# Altium footprint library LIB_TEMP_S7CAS.PcbLib: 4 footprints
Each footprint in its own frame and in the unit in brackets; x right, y up, seen from the top. Pads: shape width x height; smd on the part's side, far side on the other; paste and mask are expansions set on the pad; w line width, h text height; cw(c..) or ccw(c..) is an arc to the next point about the centre after c.
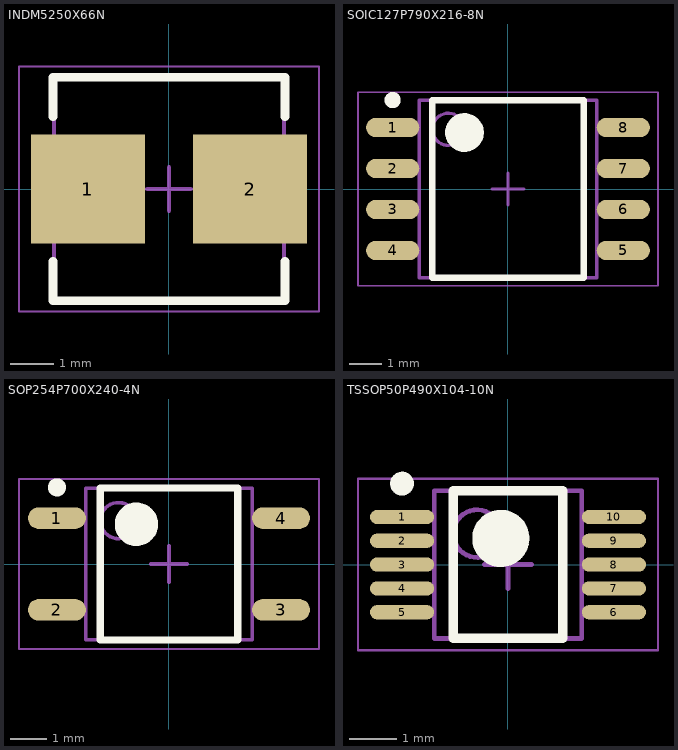
[diagram p0: the footprints below, top view; thin cyan lines are the x and y axes]

## INDM5250X66N [mm] "Molded Inductor, 2-Leads, Body 5.22x5.03mm, IPC Medium Density"
height 6.6
pads (2):
  rect 2.6x2.5 smd: 1(-1.85,0) 2(1.85,0)
Top Overlay:
  lines w0.2: -2.65,-1.65 -2.65,-2.55 2.65,-2.55 2.65,-1.65 ; -2.65,1.65 -2.65,2.55 2.65,2.55 2.65,1.65
Top 3D Model:
  lines w0.1: -2.625,-2.525 -2.625,2.525 2.625,2.525 2.625,-2.525 -2.625,-2.525
Top Courtyard:
  lines w0.05: -3.425,-2.8 -3.425,2.8 3.425,2.8 3.425,-2.8 -3.425,-2.8
  lines w0.1: -0.5,0 0.5,0 ; 0,-0.5 0,0.5
3D body: height 6.6, standoff 0, extent -2.625,-2.525 2.625,2.525

## SOIC127P790X216-8N [mm] "SOIC, 8-Leads, Body 5.29x5.29mm, Pitch 1.27mm, IPC Medium Density"
height 2.16
pads (8):
  oval 1.65x0.6 smd: 1(-3.575,1.905) 2(-3.575,0.635) 3(-3.575,-0.635) 4(-3.575,-1.905) 5(3.575,-1.905) 6(3.575,-0.635) 7(3.575,0.635) 8(3.575,1.905)
Top Overlay:
  circle w0.25: c-3.575,2.755 r0.125
  circle w0.6: c-1.35,1.75 r0.3
  lines w0.2: -2.35,-2.75 -2.35,2.75 2.35,2.75 2.35,-2.75 -2.35,-2.75
Top 3D Model:
  circle w0.1: c-1.85,1.85 r0.5
  lines w0.1: -2.75,-2.75 -2.75,2.75 2.75,2.75 2.75,-2.75 -2.75,-2.75
Top Courtyard:
  lines w0.05: -4.65,-3 -4.65,3 4.65,3 4.65,-3 -4.65,-3
  lines w0.1: -0.5,0 0.5,0 ; 0,-0.5 0,0.5
3D body: height 2.16, standoff 0.05, extent -2.75,-2.75 2.75,2.75

## SOP254P700X240-4N [mm] "SOP, 4-Leads, Body 3.85x4.40mm, Pitch 2.54mm, IPC Medium Density"
height 2.4
pads (4):
  oval 1.6x0.6 smd: 1(-3.1,1.27) 2(-3.1,-1.27) 3(3.1,-1.27) 4(3.1,1.27)
Top Overlay:
  circle w0.6: c-0.9,1.1 r0.3
  circle w0.25: c-3.1,2.12 r0.125
  lines w0.2: -1.9,-2.1 1.9,-2.1 1.9,2.1 -1.9,2.1 -1.9,-2.1
Top 3D Model:
  circle w0.1: c-1.4,1.2 r0.5
  lines w0.1: -2.3,-2.1 2.3,-2.1 2.3,2.1 -2.3,2.1 -2.3,-2.1
Top Courtyard:
  lines w0.05: -4.15,-2.35 4.15,-2.35 4.15,2.35 -4.15,2.35 -4.15,-2.35
  lines w0.1: -0.5,0 0.5,0 ; 0,-0.5 0,0.5
3D body: height 2.4, standoff 0.2, extent -2.3,-2.1 2.3,2.1

## TSSOP50P490X104-10N [mm] "TSSOP, 10-Leads, Body 3.00x3.00mm, Pitch 0.50mm, IPC Medium Density"
height 1.04
pads (10):
  oval 1.35x0.3 smd: 1(-2.225,1) 2(-2.225,0.5) 3(-2.225,0) 4(-2.225,-0.5) 5(-2.225,-1) 6(2.225,-1) 7(2.225,-0.5) 8(2.225,0) 9(2.225,0.5) 10(2.225,1)
Top Overlay:
  circle w0.25: c-2.225,1.7 r0.125
  circle w0.6: c-0.15,0.55 r0.3
  lines w0.2: -1.15,-1.55 -1.15,1.55 1.15,1.55 1.15,-1.55 -1.15,-1.55
Top 3D Model:
  circle w0.1: c-0.65,0.65 r0.5
  lines w0.1: -1.55,-1.55 -1.55,1.55 1.55,1.55 1.55,-1.55 -1.55,-1.55
Top Courtyard:
  lines w0.05: -3.15,-1.8 -3.15,1.8 3.15,1.8 3.15,-1.8 -3.15,-1.8
  lines w0.1: -0.5,0 0.5,0 ; 0,-0.5 0,0.5
3D body: height 1.04, standoff 0.03, extent -1.55,-1.55 1.55,1.55